# EAGLE library part BMI-S-208 (library jobygnss)
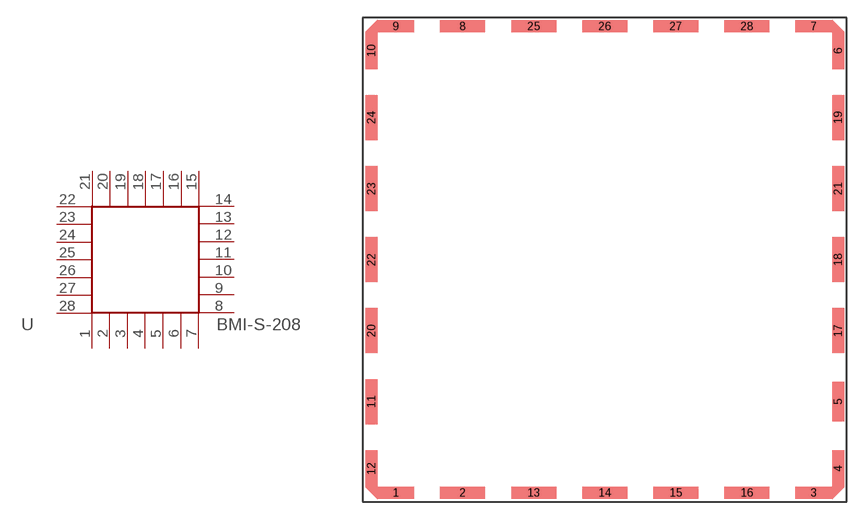
[diagram p11: symbol with the pads of BMI-S-208; footprint BMI-S-208]

Designator prefix -

## BMI-S-208  [BMI-S-208]
1  P$1  pwr
2  P$2  pwr
3  P$3  pwr
4  P$4  pwr
5  P$5  pwr
6  P$6  pwr
7  P$7  pwr
8  P$8  pwr
9  P$9  pwr
10  P$10  pwr
11  P$11  pwr
12  P$12  pwr
13  P$13  pwr
14  P$14  pwr
15  P$15  pwr
16  P$16  pwr
17  P$17  pwr
18  P$18  pwr
19  P$19  pwr
20  P$20  pwr
21  P$21  pwr
22  P$22  pwr
23  P$23  pwr
24  P$24  pwr
25  P$25  pwr
26  P$26  pwr
27  P$27  pwr
28  P$28  pwr

## Footprint BMI-S-208 (pad centres in mm)
smd 3.1 x 1: 1 2.55,0.5; 3 37.85,0.5; 7 37.85,39.9; 9 2.55,39.9
smd 3.8 x 1: 2 8.2,0.5; 8 8.2,39.9; 13 14.2,0.5; 14 20.2,0.5; 15 26.2,0.5; 16 32.2,0.5; 25 14.2,39.9; 26 20.2,39.9; 27 26.2,39.9; 28 32.2,39.9
smd 1 x 3.1: 4 39.9,2.55; 6 39.9,37.85; 10 0.5,37.85; 12 0.5,2.55
smd 1 x 3.3: 5 39.9,8.2
smd 1 x 3.8: 11 0.5,8.2; 17 39.9,14.2; 18 39.9,20.2; 19 39.9,32.2; 20 0.5,14.2; 21 39.9,26.2; 22 0.5,20.2; 23 0.5,26.2; 24 0.5,32.2